# Altium footprint library QFN24.PcbLib: 1 footprints
Each footprint in its own frame and in the unit in brackets; x right, y up, seen from the top. Pads: shape width x height; smd on the part's side, far side on the other; paste and mask are expansions set on the pad; w line width, h text height; cw(c..) or ccw(c..) is an arc to the next point about the centre after c.
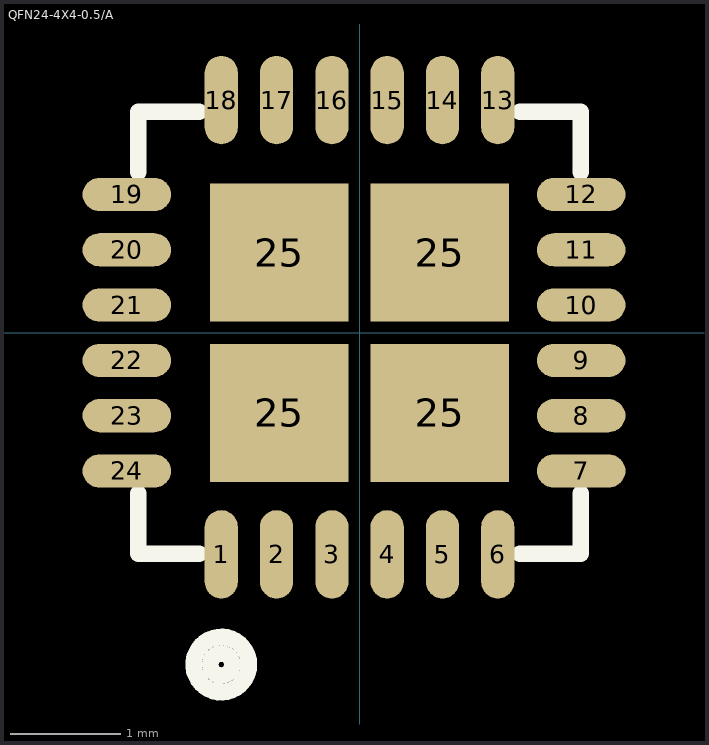
[diagram p0: the footprint, top view; thin cyan lines are the x and y axes]

## QFN24-4X4-0.5/A [mm]
pads (28):
  oval 0.3x0.8 smd: 1(-1.25,-2.004) 2(-0.75,-2.004) 3(-0.25,-2.004) 4(0.25,-2.004) 5(0.75,-2.004) 6(1.25,-2.004) 13(1.25,2.104) 14(0.75,2.104) 15(0.25,2.104) 16(-0.25,2.104) 17(-0.75,2.104) 18(-1.25,2.104)
  oval 0.8x0.3 smd: 7(2.004,-1.25) 8(2.004,-0.75) 9(2.004,-0.25) 10(2.004,0.25) 11(2.004,0.75) 12(2.004,1.25) 19(-2.104,1.25) 20(-2.104,0.75) 21(-2.104,0.25) 22(-2.104,-0.25) 23(-2.104,-0.75) 24(-2.104,-1.25)
  rect 1.25x1.25 smd: 25(-0.725,-0.725) 25(-0.725,0.725) 25(0.725,-0.725) 25(0.725,0.725)
Top Overlay:
  circle w0.15: c-1.25,-3 r0.1
  circle w0.15: c-1.25,-3 r0.25
  lines w0.15: -2,-1.45 -2,-2 -1.45,-2 ; -2,1.45 -2,2 -1.45,2 ; 1.45,-2 2,-2 2,-1.45 ; 1.45,2 2,2 2,1.45
3D body: height 1, standoff 0, extent -2,-2 2,2